# Altium schematic symbol library CRYS.Schlib: 1 symbol
Pins are listed as number, name and electrical type; pins without a type are passive.

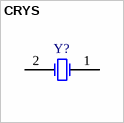
[diagram p0: symbol CRYS]

## CRYS
designator Y?
Surface Mount Crystal
pins: 1 OSC1, 2 OSC2